# Altium footprint library aiskylab-06IC-04PWR.PcbLib: 25 footprints (part 2 of 2)
Each footprint in its own frame and in the unit in brackets; x right, y up, seen from the top. Pads: shape width x height; smd on the part's side, far side on the other; paste and mask are expansions set on the pad; w line width, h text height; cw(c..) or ccw(c..) is an arc to the next point about the centre after c.
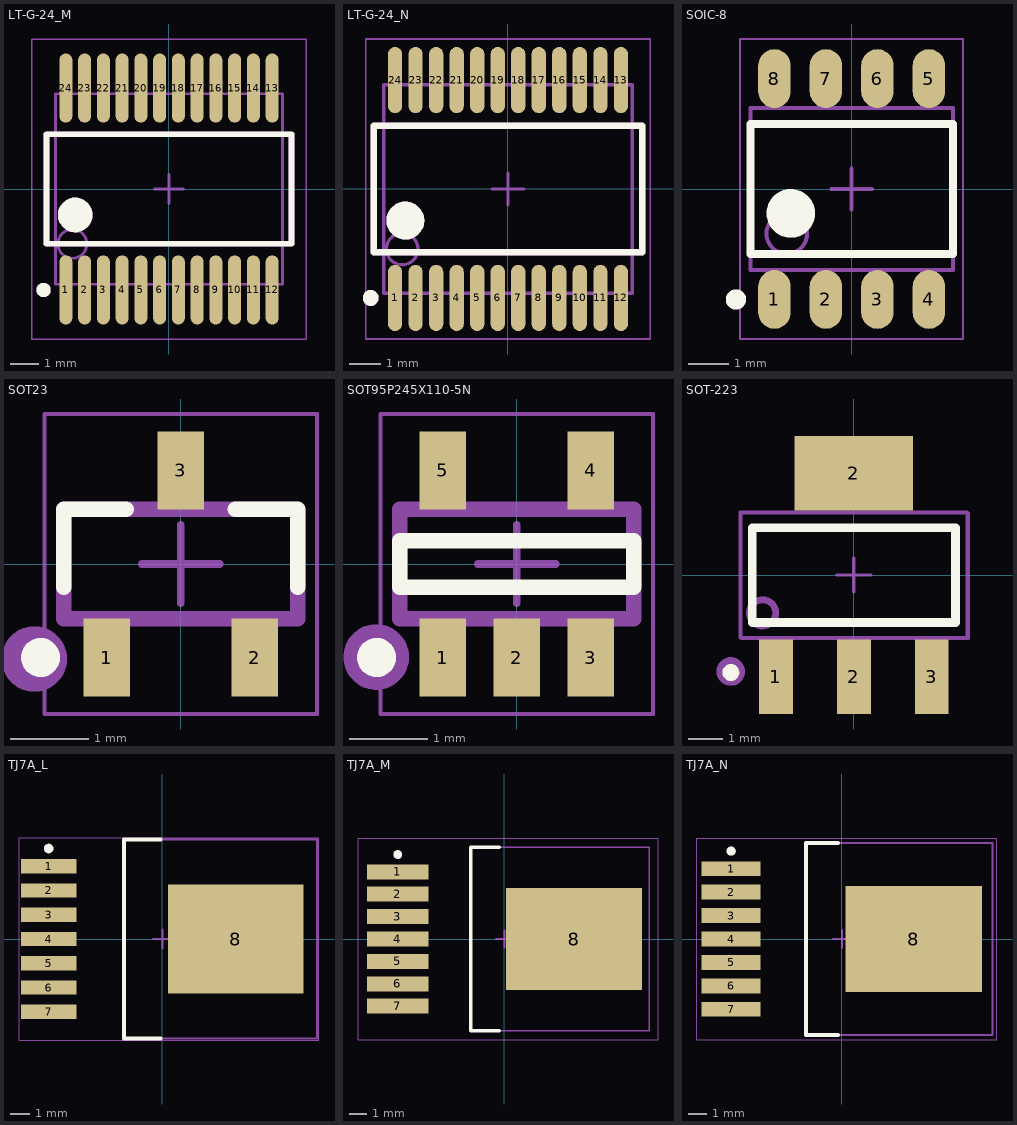
[diagram p1: the footprints below, top view; thin cyan lines are the x and y axes]

## LT-G-24_M [mm] "SOP, 24-Leads, Body 8.5x5.6mm, Pitch 0.65mm, IPC Low Density"
height 2
pads (24):
  oval 0.45x2.4 smd: 1(-3.575,-3.5) 2(-2.925,-3.5) 3(-2.275,-3.5) 4(-1.625,-3.5) 5(-0.975,-3.5) 6(-0.325,-3.5) 7(0.325,-3.5) 8(0.975,-3.5) 9(1.625,-3.5) 10(2.275,-3.5) 11(2.925,-3.5) 12(3.575,-3.5) 13(3.575,3.5) 14(2.925,3.5) 15(2.275,3.5) 16(1.625,3.5) 17(0.975,3.5) 18(0.325,3.5) 19(-0.325,3.5) 20(-0.975,3.5) 21(-1.625,3.5) 22(-2.275,3.5) 23(-2.925,3.5) 24(-3.575,3.5)
Top Overlay:
  circle w0.6: c-3.25,-0.9 r0.3
  circle w0.25: c-4.35,-3.5 r0.125
  lines w0.2: -4.25,-1.9 -4.25,1.9 4.25,1.9 4.25,-1.9 -4.25,-1.9
Top Assembly:
  circle w0.6: c-3.25,-0.9 r0.3
  circle w0.25: c-4.35,-3.5 r0.125
  lines w0.2: -4.25,-1.9 -4.25,1.9 4.25,1.9 4.25,-1.9 -4.25,-1.9
Top Component Center:
  lines w0.1: -0.5,0 0.5,0 ; 0,-0.5 0,0.5
Top Component Outline:
  lines w0.05: -4.75,-5.2 4.75,-5.2 4.75,5.2 -4.75,5.2 -4.75,-5.2
Top 3D Body:
  circle w0.1: c-3.35,-1.9 r0.5
  lines w0.1: -3.937,-3.302 3.937,-3.302 3.937,3.302 -3.937,3.302 -3.937,-3.302
3D body "User Library-User Library-TSSOP-24.step": height 1.2, standoff 0, extent -3.963,-3.275 3.937,3.275

## LT-G-24_N [mm] "SOP, 24-Leads, Body 8.5x5.6mm, Pitch 0.65mm, IPC Medium Density"
height 2
pads (24):
  oval 0.45x2.1 smd: 1(-3.575,-3.45) 2(-2.925,-3.45) 3(-2.275,-3.45) 4(-1.625,-3.45) 5(-0.975,-3.45) 6(-0.325,-3.45) 7(0.325,-3.45) 8(0.975,-3.45) 9(1.625,-3.45) 10(2.275,-3.45) 11(2.925,-3.45) 12(3.575,-3.45) 13(3.575,3.45) 14(2.925,3.45) 15(2.275,3.45) 16(1.625,3.45) 17(0.975,3.45) 18(0.325,3.45) 19(-0.325,3.45) 20(-0.975,3.45) 21(-1.625,3.45) 22(-2.275,3.45) 23(-2.925,3.45) 24(-3.575,3.45)
Top Overlay:
  circle w0.6: c-3.25,-1 r0.3
  circle w0.25: c-4.35,-3.45 r0.125
  lines w0.2: -4.25,-2 -4.25,2 4.25,2 4.25,-2 -4.25,-2
Top Assembly:
  circle w0.6: c-3.25,-1 r0.3
  circle w0.25: c-4.35,-3.45 r0.125
  lines w0.2: -4.25,-2 -4.25,2 4.25,2 4.25,-2 -4.25,-2
Top Component Center:
  lines w0.1: -0.5,0 0.5,0 ; 0,-0.5 0,0.5
Top Component Outline:
  lines w0.05: -4.5,-4.75 -4.5,4.75 4.5,4.75 4.5,-4.75 -4.5,-4.75
Top 3D Body:
  circle w0.1: c-3.35,-1.9 r0.5
  lines w0.1: -3.937,-3.302 3.937,-3.302 3.937,3.302 -3.937,3.302 -3.937,-3.302
3D body "User Library-User Library-TSSOP-24.step": height 1.2, standoff 0, extent -3.963,-3.275 3.937,3.275

## SOIC-8 [mm] "SOIC, 8-Leads, Body 4.91x3.90mm, Pitch 1.27mm, IPC Medium Density"
height 1.75
pads (8):
  oval 0.8x1.45 smd: 1(-1.905,-2.725) 2(-0.635,-2.725) 3(0.635,-2.725) 4(1.905,-2.725) 5(1.905,2.725) 6(0.635,2.725) 7(-0.635,2.725) 8(-1.905,2.725)
Top Overlay:
  circle w0.6: c-1.5,-0.6 r0.3
  circle w0.25: c-2.855,-2.725 r0.125
  lines w0.2: -2.5,-1.6 -2.5,1.6 2.5,1.6 2.5,-1.6 -2.5,-1.6
Top Assembly:
  circle w0.1: c-1.6,-1.1 r0.5
  lines w0.1: -2.5,-2 -2.5,2 2.5,2 2.5,-2 -2.5,-2
Top Component Center:
  lines w0.1: -0.5,0 0.5,0 ; 0,-0.5 0,0.5
Top Component Outline:
  circle w0.1: c-1.6,-1.1 r0.5
  lines w0.05: -2.75,-3.7 -2.75,3.7 2.75,3.7 2.75,-3.7 -2.75,-3.7
Top 3D Body:
  lines w0.1: -2.5,-2 -2.5,2 2.5,2 2.5,-2 -2.5,-2
3D body "SOIC127P600X175-8N.step": height 1.75, standoff 0, extent -2.5,-2.997 2.5,2.998

## SOT23 [mm] "SOT23, 3-Leads, Body 2.90x2.45mm, Pitch 0.95mm, IPC Medium Density"
height 1.1
pads (3):
  rect 0.6x1 smd: 1(-0.95,-1.2) 2(0.95,-1.2) 3(0,1.2)
Top Overlay:
  circle w0.25: c-1.8,-1.2 r0.125
  lines w0.2: -1.5,-0.3 -1.5,0.7 -0.7,0.7 ; 0.7,0.7 1.5,0.7 1.5,-0.3
Top Designator:
  text ".Designator" at -7.618,-0.508 h1.52
Top Assembly:
  circle w0.5: c-1.88,-1.219 r0.17
  lines w0.2: -1.5,-0.7 -1.5,0.7 1.5,0.7 1.5,-0.7 -1.5,-0.7
Top Component Center:
  lines w0.1: -0.5,0 0.5,0 ; 0,-0.5 0,0.5
Top Component Outline:
  lines w0.05: -1.75,-1.925 -1.75,1.925 1.75,1.925 1.75,-1.925 -1.75,-1.925
3D body "SOT95P245X110-3N.step": height 1.1, standoff 0, extent -1.5,-1.3 1.5,1.3

## SOT95P245X110-5N [mm] "SOT23, 5-Leads, Body 2.90x2.45mm, Pitch 0.95mm, IPC Medium Density"
height 1.1
pads (5):
  rect 0.6x1 smd: 1(-0.95,-1.2) 2(0,-1.2) 3(0.95,-1.2) 4(0.95,1.2) 5(-0.95,1.2)
Top Overlay:
  circle w0.25: c-1.8,-1.2 r0.125
  lines w0.2: -1.5,-0.3 1.5,-0.3 1.5,0.3 -1.5,0.3 -1.5,-0.3
Top Designator:
  text ".Designator" at -7.755,-0.508 h1.52
Top Assembly:
  circle w0.5: c-1.803,-1.194 r0.17
  circle w0.2: c-1.803,-1.194 r0.105
  lines w0.2: -1.5,-0.7 -1.5,0.7 1.5,0.7 1.5,-0.7 -1.5,-0.7
Top Component Center:
  lines w0.1: -0.5,0 0.5,0 ; 0,-0.5 0,0.5
Top Component Outline:
  lines w0.05: -1.75,-1.925 -1.75,1.925 1.75,1.925 1.75,-1.925 -1.75,-1.925
3D body "SOT95P245X110-5N.step": height 1.1, standoff 0, extent -1.5,-1.3 1.5,1.3

## SOT-223 [mm]
pads (4):
  rect 1x2.2 smd: 1(-2.3,-3) 2(0,-3) 3(2.3,-3)
  rect 3.5x2.2 smd: 2(0,3)
Top Overlay:
  circle w0.25: c-3.629,-2.876 r0.125
  lines w0.254: -3,-1.4 -3,1.4 3,1.4 3,-1.4 -3,-1.4
Top Designator:
  text ".Designator" at -7.608,-0.508 h1.52
Top Assembly:
  circle w0.5: c-3.632,-2.845 r0.17
  circle w0.2: c-2.692,-1.118 r0.388
  lines w0.1: -3.353,-1.846 -3.353,1.854 3.347,1.854 3.347,-1.846 -3.353,-1.846 ; -3.35,-1.85 -3.35,1.85 3.35,1.85 3.35,-1.85 -3.35,-1.85
Top Component Center:
  lines w0.1: -0.5,0 0.5,0 ; 0,-0.5 0,0.5
Top Component Outline:
  lines w0.1: -3.327,-1.871 3.373,-1.871 3.373,1.829 -3.327,1.829 -3.327,-1.871
3D body "TO-223.STEP": height 1.64, standoff -0.04, extent -3.242,-3.49 3.243,3.49

## TJ7A_L [mm] "D2-PAK, 8-Leads, Body 9.9x10.2mm, Pitch 1.27mm, Lead Span 14mm, IPC High Density"
height 2.1
pads (8):
  rect 2.9x0.75 smd: 1(-5.95,3.81) 2(-5.95,2.54) 3(-5.95,1.27) 4(-5.95,0) 5(-5.95,-1.27) 6(-5.95,-2.54) 7(-5.95,-3.81)
  rect 7.1x5.7 smd: 8(3.85,0)
Top Overlay:
  circle w0.25: c-5.95,4.735 r0.125
  lines w0.2: -0.1,-5.2 -2,-5.2 -2,5.2 -0.1,5.2
Top Component Center:
  lines w0.1: -0.5,0 0.5,0 ; 0,-0.5 0,0.5
Top Component Outline:
  lines w0.05: -7.5,-5.3 8.2,-5.3 8.2,5.3 -7.5,5.3 -7.5,-5.3
Top 3D Body:
  lines w0.1: -2,-5.2 -2,5.2 8.1,5.2 8.1,-5.2 -2,-5.2
3D body "DPAK127P1310X200-8N.step": height 2.38, standoff 0, extent -6.265,-5.075 6.835,5.075

## TJ7A_M [mm] "D2-PAK, 8-Leads, Body 9.9x10.2mm, Pitch 1.27mm, Lead Span 14mm, IPC Low Density"
height 2.1
pads (8):
  rect 3.5x0.85 smd: 1(-6.05,3.81) 2(-6.05,2.54) 3(-6.05,1.27) 4(-6.05,0) 5(-6.05,-1.27) 6(-6.05,-2.54) 7(-6.05,-3.81)
  rect 7.7x5.8 smd: 8(3.95,0)
Top Overlay:
  circle w0.25: c-6.05,4.785 r0.125
  lines w0.2: -0.3,-5.2 -1.9,-5.2 -1.9,5.2 -0.3,5.2
Top Component Center:
  lines w0.1: -0.5,0 0.5,0 ; 0,-0.5 0,0.5
Top Component Outline:
  lines w0.05: -8.3,-5.7 -8.3,5.7 8.7,5.7 8.7,-5.7 -8.3,-5.7
Top 3D Body:
  lines w0.1: -1.9,-5.2 -1.9,5.2 8.2,5.2 8.2,-5.2 -1.9,-5.2
3D body "DPAK127P1310X200-8N.step": height 2.38, standoff 0, extent -6.265,-5.075 6.835,5.075

## TJ7A_N [mm] "D2-PAK, 8-Leads, Body 9.9x10.2mm, Pitch 1.27mm, Lead Span 14mm, IPC Medium Density"
height 2.1
pads (8):
  rect 3.2x0.8 smd: 1(-6,3.81) 2(-6,2.54) 3(-6,1.27) 4(-6,0) 5(-6,-1.27) 6(-6,-2.54) 7(-6,-3.81)
  rect 7.4x5.75 smd: 8(3.9,0)
Top Overlay:
  circle w0.25: c-6,4.76 r0.125
  lines w0.2: -0.2,-5.2 -1.95,-5.2 -1.95,5.2 -0.2,5.2
Top Component Outline:
  lines w0.05: -7.85,-5.45 -7.85,5.45 8.4,5.45 8.4,-5.45 -7.85,-5.45
  lines w0.1: -0.5,0 0.5,0 ; 0,-0.5 0,0.5
Top 3D Body:
  lines w0.1: -1.95,-5.2 -1.95,5.2 8.15,5.2 8.15,-5.2 -1.95,-5.2
3D body "DPAK127P1310X200-8N.step": height 2.38, standoff 0, extent -6.265,-5.075 6.835,5.075